# Altium schematic symbol library SCH_Passive.SchLib: 30 symbols
Pins are listed as number, name and electrical type; pins without a type are passive.

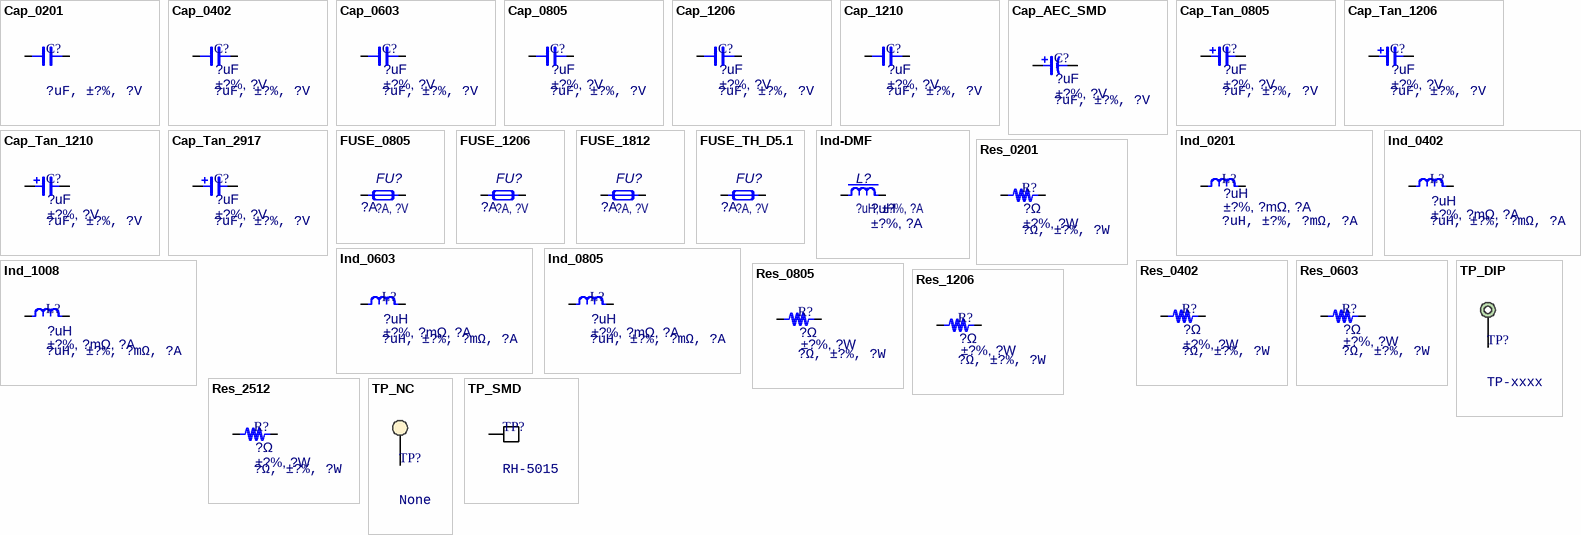
[diagram p0: symbols Cap_0201 to TP_SMD]

## Cap_0201
designator C?, comment ?uF, ±?%, ?V
Capacitor; MFR: Mfr?; PartNumber: C0201; Note: ±?%, ?V; Package: 0201; Value: ?uF
footprint CAP_0201
pins: 1, 2

## Cap_0402
designator C?, comment ?uF, ±?%, ?V  value ?uF  Note: ±?%, ?V
Capacitor; MFR: Mfr?; PartNumber: C0402; Package: 0402
footprint CAP_0402
pins: 1, 2

## Cap_0603
designator C?, comment ?uF, ±?%, ?V  value ?uF  Note: ±?%, ?V
Capacitor; MFR: Mfr?; PartNumber: C0603; Package: 0603
footprint CAP_0603
pins: 1, 2

## Cap_0805
designator C?, comment ?uF, ±?%, ?V  value ?uF  Note: ±?%, ?V
Capacitor; MFR: Mfr?; PartNumber: C0805; Package: 0805
footprint CAP_0805
pins: 1, 2

## Cap_1206
designator C?, comment ?uF, ±?%, ?V  value ?uF  Note: ±?%, ?V
Capacitor; MFR: Mfr?; PartNumber: C1206; Package: 1206
footprint CAP_1206
pins: 1, 2

## Cap_1210
designator C?, comment ?uF, ±?%, ?V  value ?uF  Note: ±?%, ?V
Capacitor; MFR: Mfr?; PartNumber: C1210; Package: 1210
footprint CAP_1210
pins: 1, 2

## Cap_AEC_SMD
designator C?, comment ?uF, ±?%, ?V  value ?uF  Note: ±?%, ?V
Capacitor AEC; MFR: Mfr?; Package: SMD; PartNumber: AEC
footprint CAP_SMD_D10xL10.2mm (SMD Cap)
footprint CAP_SMD_D6.3xL7.7mm
pins: 1, 2

## Cap_Tan_0805
designator C?, comment ?uF, ±?%, ?V  value ?uF  Note: ±?%, ?V
Capacitor Tantalum; MFR: Mfr?; PartNumber: TAC0805; Package: 0805
footprint CAP_TAN_P0805
pins: 1, 2

## Cap_Tan_1206
designator C?, comment ?uF, ±?%, ?V  value ?uF  Note: ±?%, ?V
Capacitor Tantalum; MFR: Mfr?; PartNumber: TAC1206; Package: 1206
footprint CAP_TAN_A1206
pins: 1, 2

## Cap_Tan_1210
designator C?, comment ?uF, ±?%, ?V  value ?uF  Note: ±?%, ?V
Capacitor Tantalum; MFR: Mfr?; PartNumber: TAC1210; Package: 1210
footprint CAP_TAN_B1210
pins: 1, 2

## Cap_Tan_2917
designator C?, comment ?uF, ±?%, ?V  value ?uF  Note: ±?%, ?V
Capacitor Tantalum; MFR: Mfr?; PartNumber: TAC2917; Package: 2917
footprint CAP_TAN_D2917
pins: 1, 2

## FUSE_0805
designator FU?, comment ?A, ?V  value ?A
Self recovery fuse PPTC; MFR: Mfr?; PartNumber: FU0805; Package: 0805; Note: ?V
footprint RES_0805
pins: 1, 2

## FUSE_1206
designator FU?, comment ?A, ?V  value ?A
Self recovery fuse PPTC; MFR: Mfr?; PartNumber: FU1206; Package: 1206; Note: ?V
footprint FUSE_1206
pins: 1, 2

## FUSE_1812
designator FU?, comment ?A, ?V  value ?A
Self recovery fuse PPTC; MFR: Mfr?; PartNumber: FU1812; Package: 1812; Note: ?V
footprint FUSE_1812
pins: 1, 2

## FUSE_TH_D5.1
designator FU?, comment ?A, ?V  value ?A
Self recovery fuse PPTC; MFR: Mfr?; PartNumber: FU; Package: DIPx2; Note: ?V
footprint FUSE-TH-D5.1mm
pins: 1, 2

## Ind-DMF
designator L?, comment ?uH, ±?%, ?A  value ?uH  Note: ±?%, ?A
Differential mode filtering inductance; MFR: Mfr?; PartNumber: L; Package: pkg?
footprint IND_SMD_4x4
pins: 1, 2

## Ind_0201
designator L?, comment ?uH, ±?%, ?mΩ, ?A  value ?uH  Note: ±?%, ?mΩ, ?A
Inductor; MFR: Mfr?; PartNumber: L0201; Package: 0201
footprint IND_0201
pins: 1, 2

## Ind_0402
designator L?, comment ?uH, ±?%, ?mΩ, ?A  value ?uH  Note: ±?%, ?mΩ, ?A
Inductor; MFR: Mfr?; PartNumber: L0402; Package: 0402
footprint IND_0402
pins: 1, 2

## Ind_0603
designator L?, comment ?uH, ±?%, ?mΩ, ?A  value ?uH  Note: ±?%, ?mΩ, ?A
Inductor; MFR: Mfr?; PartNumber: L0603; Package: 0603
footprint IND_0603
pins: 1, 2

## Ind_0805
designator L?, comment ?uH, ±?%, ?mΩ, ?A  value ?uH  Note: ±?%, ?mΩ, ?A
Inductor; MFR: Mfr?; PartNumber: L0805; Package: 0805
footprint IND_0805
pins: 1, 2

## Ind_1008
designator L?, comment ?uH, ±?%, ?mΩ, ?A  value ?uH  Note: ±?%, ?mΩ, ?A
Inductor; MFR: Mfr?; PartNumber: L1008; Package: 1008
footprint IND_1008
pins: 1, 2

## Res_0201
designator R?, comment ?Ω, ±?%, ?W  value ?Ω  Note: ±?%, ?W
Resistor; MFR: Mfr?; PartNumber: R0201; Package: 0201
footprint RES_0201
pins: 1, 2

## Res_0402
designator R?, comment ?Ω, ±?%, ?W  value ?Ω  Note: ±?%, ?W
Resistor; MFR: Mfr?; PartNumber: R0402; Package: 0402
footprint RES_0402
pins: 1, 2

## Res_0603
designator R?, comment ?Ω, ±?%, ?W  value ?Ω  Note: ±?%, ?W
Resistor; MFR: Mfr?; PartNumber: R0603; Package: 0603
footprint RES_0603
pins: 1, 2

## Res_0805
designator R?, comment ?Ω, ±?%, ?W  value ?Ω  Note: ±?%, ?W
Resistor; MFR: Mfr?; PartNumber: R0805; Package: 0805
footprint RES_0805
pins: 1, 2

## Res_1206
designator R?, comment ?Ω, ±?%, ?W  value ?Ω  Note: ±?%, ?W
Resistor; MFR: Mfr?; PartNumber: R1206; Package: 1206
footprint RES_1206
pins: 1, 2

## Res_2512
designator R?, comment ?Ω, ±?%, ?W  value ?Ω  Note: ±?%, ?W
Resistor; MFR: Mfr?; PartNumber: R2512; Package: 2512
footprint RES_2512
pins: 1, 2

## TP_DIP
designator TP?, comment TP-xxxx
TestPoint; MFR: Mfr?; Package: DIP; PartNumber: TP-xxxx
footprint TP_DIP
pins: 1

## TP_NC
designator TP?, comment None
TestPoint; MFR: None; Package: NC; PartNumber: None
footprint TP_NC
pins: 1

## TP_SMD
designator TP?, comment RH-5015
TestPoint; MFR: RongHe; Package: SMD; PartNumber: RH-5015
footprint TP_SMD
pins: 1